# Altium footprint library B3FS4002P.PcbLib: 1 footprints
Each footprint in its own frame and in the unit in brackets; x right, y up, seen from the top. Pads: shape width x height; smd on the part's side, far side on the other; paste and mask are expansions set on the pad; w line width, h text height; cw(c..) or ccw(c..) is an arc to the next point about the centre after c.
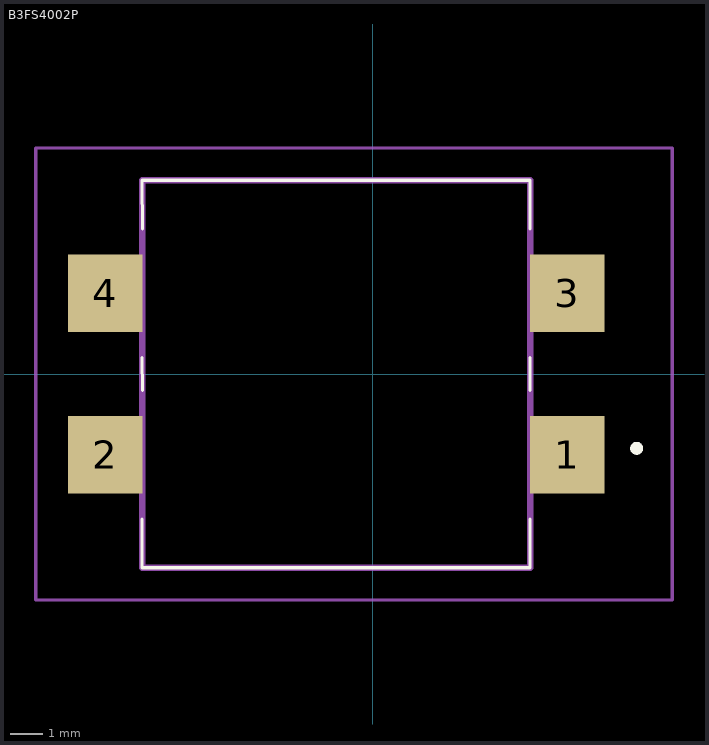
[diagram p0: the footprint, top view; thin cyan lines are the x and y axes]

## B3FS4002P [mm]
pads (4):
  rect 2.3x2.4 smd: 1(6.025,-2.5) 2(-8.275,-2.5) 3(6.025,2.5) 4(-8.275,2.5)
Top Overlay:
  lines w0.1: -7.135,-4.5 -7.135,-6 4.875,-6 4.875,-4.5 ; -7.135,0.5 -7.125,-0.5 ; -7.125,4.5 -7.135,6 4.87,6 4.87,4.5 ; 4.875,-0.5 4.875,0.5
  lines w0.2: 8.175,-2.4 ccw(c8.175,-2.3) 8.175,-2.2 ; 8.175,-2.4 8.175,-2.4 ; 8.175,-2.4 cw(c8.175,-2.3) 8.175,-2.2 ; 8.175,-2.2 8.175,-2.2
Mechanical 15:
  lines w0.2: -7.125,-6 4.875,-6 4.875,6 -7.125,6 -7.125,-6
Mechanical 20:
  lines w0.1: -10.425,-7 9.275,-7 9.275,7 -10.425,7 -10.425,-7
3D body "B3FS-4002P.stp": height 5.8, standoff -4.65, extent -10,-3.376 10,3.376